# Altium footprint library Connectors.PcbLib: 19 footprints (part 1 of 2)
Each footprint in its own frame and in the unit in brackets; x right, y up, seen from the top. Pads: shape width x height; smd on the part's side, far side on the other; paste and mask are expansions set on the pad; w line width, h text height; cw(c..) or ccw(c..) is an arc to the next point about the centre after c.
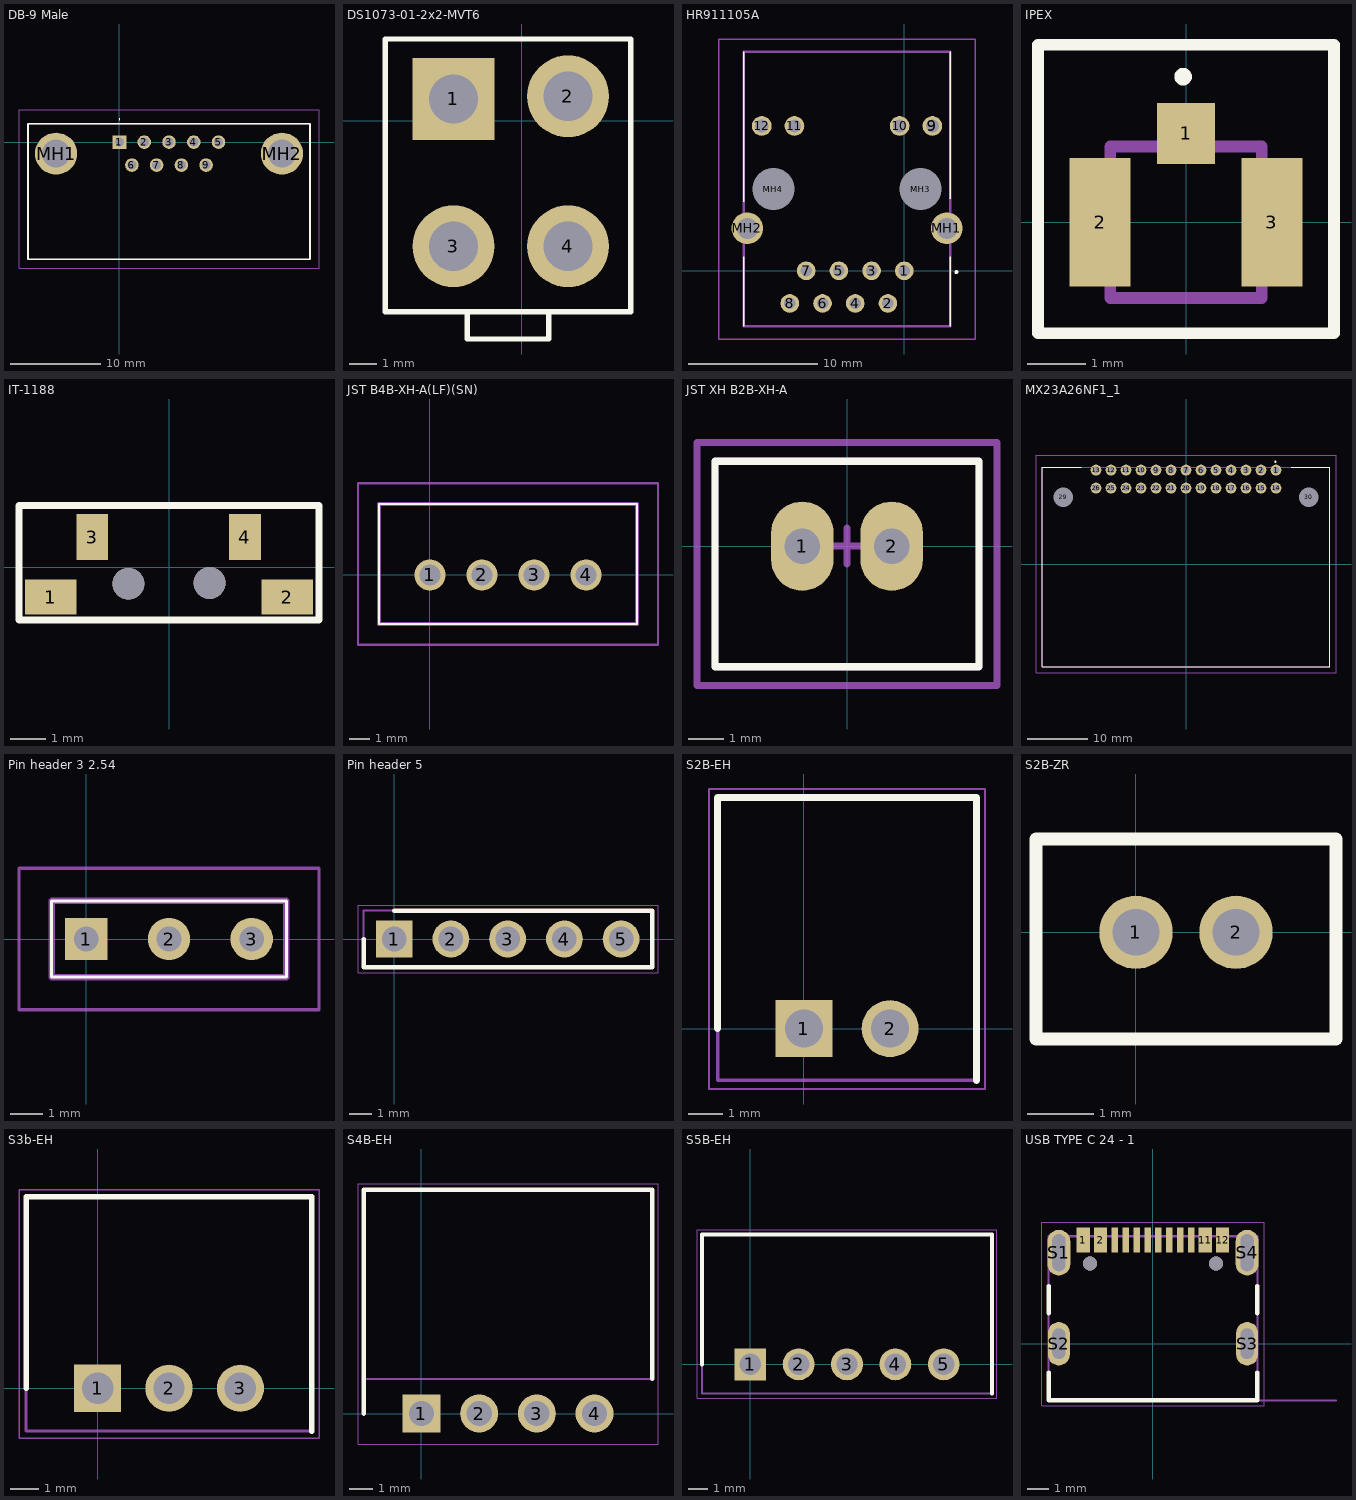
[diagram p0: the footprints below, top view; thin cyan lines are the x and y axes]

## DB-9 Male [mm]
pads (11):
  rect 1.5x1.5 hole 1: 1(0,0)
  round 1.5 hole 1: 2(2.74,0) 3(5.48,0) 4(8.22,0) 5(10.96,0) 6(1.37,-2.54) 7(4.11,-2.54) 8(6.85,-2.54) 9(9.59,-2.54)
  round 4.65 hole 3.1: MH1(-7.02,-1.27) MH2(17.98,-1.27)
Top Overlay:
  lines w0.1: 0,2.5 ccw(c0,2.55) 0,2.6 ccw(c0,2.55) 0,2.5
  lines w0.2: -10.12,-12.97 21.08,-12.97 21.08,2.03 -10.12,2.03 -10.12,-12.97
Mechanical 13:
  lines w0.1: -10.12,-12.97 21.08,-12.97 21.08,2.03 -10.12,2.03 -10.12,-12.97
Mechanical 15:
  lines w0.1: -11.12,-13.97 22.08,-13.97 22.08,3.6 -11.12,3.6 -11.12,-13.97
3D body "09651226802.stp": height 13.81, standoff -2.76, extent -10.12,-19.03 21.08,1.92

## DS1073-01-2x2-MVT6 [mm]
pads (4):
  rect 3x3 hole 1.8: 1(-2.5,0.8)
  round 3 hole 1.8: 2(1.7,0.9) 3(-2.5,-4.6) 4(1.7,-4.6)
Top Overlay:
  lines w0.2: -2,-7 -2,-8 1,-8 1,-7 ; -5,-7 4,-7 4,3 -5,3 -5,-7

## HR911105A [mm]
pads (16):
  round 1.446 hole 0.89: 1(0,0) 2(-1.27,-2.54) 3(-2.54,0) 4(-3.81,-2.54) 5(-5.08,0) 6(-6.35,-2.54) 7(-7.62,0) 8(-8.89,-2.54)
  round 1.53 hole 1.02: 9(2.18,11.25) 10(-0.36,11.25) 11(-8.53,11.25) 12(-11.07,11.25)
  round 2.445 hole 1.63: MH1(3.3,3.3) MH2(-12.19,3.3)
  round 1.625 hole 3.25 unplated: MH3(1.27,6.35) MH4(-10.16,6.35)
Top Overlay:
  lines w0.1: -12.465,-4.3 -12.465,1.1 -12.465,-4.3 ; -12.465,5.35 -12.465,17 -12.465,5.35 ; 3.575,-4.3 3.575,1.1 3.575,-4.3 ; 3.575,5.6 3.575,17 3.575,5.6
  lines w0.2: 4.05,-0.15 ccw(c4.05,-0.1) 4.05,-0.05 ; 4.05,-0.15 cw(c4.05,-0.1) 4.05,-0.05 ; 4.05,-0.15 ccw(c4.05,-0.1) 4.05,-0.05
Mechanical 13:
  lines w0.2: -12.465,-4.3 -12.465,17 3.575,17 3.575,-4.3 -12.465,-4.3
Mechanical 15:
  lines w0.1: -14.417,-5.3 -14.417,18 5.518,18 5.518,-5.3 -14.417,-5.3
3D body "HR911105A.stp": height 13.53, standoff -2.97, extent -12.39,-4.08 3.49,17.32

## IPEX [mm]
pads (3):
  rect 1x1.05 smd: 1(0,1.525)
  rect 1.05x2.2 smd: 2(-1.475,0) 3(1.475,0)
Top Overlay:
  lines w0.2: -2.54,-1.905 2.54,-1.905 2.54,3.048 -2.54,3.048 -2.54,-1.905 ; -0.1,2.5 cw(c-0.05,2.5) 0,2.5 cw(c-0.05,2.5) -0.1,2.5
Mechanical 13:
  lines w0.2: -1.3,-1.3 1.3,-1.3 1.3,1.3 -1.3,1.3 -1.3,-1.3
Mechanical 15:
  lines w0.1: -2.54,-1.905 2.54,-1.905 2.54,3.048 -2.54,3.048 -2.54,-1.905
3D body "User Library-IPEX.STEP": height 1.25, standoff -0.01, extent -1.5,-1.35 1.5,1.75

## IT-1188 [mm]
pads (6):
  rect 1.45x1 smd: 1(-3.35,-0.85) 2(3.35,-0.85)
  rect 0.9x1.3 smd: 3(-2.175,0.85) 4(2.15,0.85)
  round 0.9 hole 0.9: ""(-1.15,-0.475) ""(1.15,-0.45)
Top Overlay:
  lines w0.2: -4.25,-1.5 4.25,-1.5 4.25,1.75 -4.25,1.75 -4.25,1.5 -4.25,-1.5
3D body "User Library-it-1188e.STEP": height 3.5, standoff -0.7, extent -3.898,-1.7 3.902,1.9

## JST B4B-XH-A(LF)(SN) [mm]
pads (4):
  round 1.5 hole 1: 1(0,0) 2(2.5,0) 3(5,0) 4(7.5,0)
Top Overlay:
  lines w0.1: -2.45,-2.35 -2.45,3.4 9.95,3.4 9.95,-2.35 -2.45,-2.35
Mechanical 13:
  lines w0.2: -2.45,-2.35 -2.45,3.4 9.95,3.4 9.95,-2.35 -2.45,-2.35
Mechanical 15:
  lines w0.1: -3.45,-3.35 -3.45,4.4 10.95,4.4 10.95,-3.35 -3.45,-3.35
3D body "B4B-XH-A_LF__SN_.stp": height 7.52, standoff -2.88, extent -2.454,-2.355 9.946,3.395

## JST XH B2B-XH-A [mm]
height 7
pads (2):
  oval 1.75x2.5 hole 1: 1(-1.25,0) 2(1.25,0)
Top Overlay:
  lines w0.2: -3.7,-3.375 3.7,-3.375 3.7,2.375 -3.7,2.375 -3.7,-3.375
Mechanical 1:
  lines w0.2: -3.7,-3.375 -3.7,2.375 3.7,2.375 3.7,-3.375 -3.7,-3.375
Mechanical 15:
  lines w0.2: -0.5,0 0.5,0 ; 0,-0.5 0,0.5 ; -4.2,-3.9 4.2,-3.9 4.2,2.9 -4.2,2.9 -4.2,-3.9
3D body "JST B2B-XH-A.STEP": height 7, standoff -3.4, extent -3.7,-3.375 3.7,2.375

## MX23A26NF1_1 [mm]
pads (28):
  round 1.8 hole 1.2: 1(15,15.65) 2(12.5,15.65) 3(10,15.65) 4(7.5,15.65) 5(5,15.65) 6(2.5,15.65) 7(0,15.65) 8(-2.5,15.65) 9(-5,15.65) 10(-7.5,15.65) 11(-10,15.65) 12(-12.5,15.65) 13(-15,15.65) 14(15,12.65) 15(12.5,12.65) 16(10,12.65) 17(7.5,12.65) 18(5,12.65) 19(2.5,12.65) 20(0,12.65) 21(-2.5,12.65) 22(-5,12.65) 23(-7.5,12.65) 24(-10,12.65) 25(-12.5,12.65) 26(-15,12.65)
  round 1.625 hole 3.25 unplated: 29(-20.5,11.15) 30(20.5,11.15)
Top Overlay:
  lines w0.1: -17.5,16.15 -24,16.15 -24,-17.15 24,-17.15 24,16.15 17.5,16.15
  lines w0.2: 14.8,17.05 ccw(c14.9,17.05) 15,17.05 ccw(c14.9,17.05) 14.8,17.05
Mechanical 13:
  lines w0.2: -24,-17.15 24,-17.15 24,16.15 -24,16.15 -24,-17.15
Mechanical 15:
  lines w0.1: -25,-18.15 25,-18.15 25,18.15 -25,18.15 -25,-18.15
3D body "K3D-MX23A26NF1-R5 JAE Connector Division Proprietary.STEP": height 17.72, standoff -3.68, extent -24,-22.044 24,16.256

## Pin header 3 2.54 [mm]
pads (3):
  rect 1.303x1.303 hole 0.76: 1(0,0)
  round 1.303 hole 0.76: 2(2.54,0) 3(5.08,0)
Top Overlay:
  lines w0.1: -1.065,-1.17 6.145,-1.17 6.145,1.17 -1.065,1.17 -1.065,-1.17
Mechanical 1:
  lines w0.1: -2.065,-2.17 -2.065,2.17 7.145,2.17 7.145,-2.17 -2.065,-2.17
Mechanical 13:
  lines w0.2: -1.065,-1.17 6.145,-1.17 6.145,1.17 -1.065,1.17 -1.065,-1.17
3D body "5-146278-3.stp": height 8.12, standoff -3.05, extent -1.067,-1.168 6.147,1.168

## Pin header 5 [mm]
pads (5):
  rect 1.65x1.65 hole 1.1: 1(0,0)
  round 1.65 hole 1.1: 2(2.54,0) 3(5.08,0) 4(7.62,0) 5(10.16,0)
Top Overlay:
  lines w0.2: -1.37,0 -1.37,-1.27 11.557,-1.27 11.557,1.27 0,1.27
Mechanical 13:
  lines w0.1: -1.37,-1.27 -1.37,1.27 11.557,1.27 11.557,-1.27 -1.37,-1.27
Mechanical 15:
  lines w0.05: -1.62,-1.52 11.811,-1.52 11.811,1.52 -1.62,1.52 -1.62,-1.52

## S2B-EH [mm]
pads (2):
  rect 1.65x1.65 hole 1.1: 1(0,0)
  round 1.65 hole 1.1: 2(2.5,0)
Top Overlay:
  lines w0.2: -2.5,0 -2.5,6.7 5,6.7 5,-1.5
Mechanical 13:
  lines w0.1: -2.5,-1.5 -2.5,6.7 5,6.7 5,-1.5 -2.5,-1.5
Mechanical 15:
  lines w0.05: -2.75,-1.75 5.25,-1.75 5.25,6.95 -2.75,6.95 -2.75,-1.75
3D body "S2B-EH_LF__SN_.stp": height 4.2, standoff -3.2, extent -2.5,-1.5 5,6.7

## S2B-ZR [mm]
pads (2):
  round 1.1 hole 0.7: 1(0,0) 2(1.5,0)
Top Overlay:
  lines w0.2: -1.5,-1.6 -1.5,1.4 3,1.4 3,-1.6 -1.5,-1.6
Mechanical 13:
  lines w0.1: -1.5,-1.6 -1.5,1.4 3,1.4 3,-1.6 -1.5,-1.6

## S3b-EH [mm]
pads (3):
  rect 1.65x1.65 hole 1.1: 1(0,0)
  round 1.65 hole 1.1: 2(2.5,0) 3(5,0)
Top Overlay:
  lines w0.2: -2.5,0 -2.5,6.7 7.5,6.7 7.5,-1.5
Mechanical 13:
  lines w0.1: -2.5,-1.5 -2.5,6.7 7.5,6.7 7.5,-1.5 -2.5,-1.5
Mechanical 15:
  lines w0.05: -2.75,-1.75 7.75,-1.75 7.75,6.95 -2.75,6.95 -2.75,-1.75
3D body "S3B-EH_LF__SN_.stp": height 4.2, standoff -3.2, extent -2.5,-1.5 7.5,6.7

## S4B-EH [mm]
pads (4):
  rect 1.65x1.65 hole 1.1: 1(0,0)
  round 1.65 hole 1.1: 2(2.5,0) 3(5,0) 4(7.5,0)
Top Overlay:
  lines w0.2: -2.5,0 -2.5,9.7 10,9.7 10,1.5
Mechanical 13:
  lines w0.1: -2.5,1.5 -2.5,9.7 10,9.7 10,1.5 -2.5,1.5
Mechanical 15:
  lines w0.05: -2.75,-1.325 10.25,-1.325 10.25,9.95 -2.75,9.95 -2.75,-1.325
3D body "S4B-EH__LF___SN_.stp": height 4.2, standoff -3.2, extent -2.5,-0.32 10,9.7

## S5B-EH [mm]
pads (5):
  rect 1.65x1.65 hole 1.1: 1(0,0)
  round 1.65 hole 1.1: 2(2.5,0) 3(5,0) 4(7.5,0) 5(10,0)
Top Overlay:
  lines w0.2: -2.5,0 -2.5,6.7 12.5,6.7 12.5,-1.5
Mechanical 13:
  lines w0.1: -2.5,-1.5 -2.5,6.7 12.5,6.7 12.5,-1.5 -2.5,-1.5
Mechanical 15:
  lines w0.05: -2.75,-1.75 12.75,-1.75 12.75,6.95 -2.75,6.95 -2.75,-1.75
3D body "S5B-EH_LF__SN_.stp": height 4.2, standoff -3.2, extent -2.5,-1.5 12.5,6.7

## USB TYPE C 24 - 1 [mm]
pads (18):
  rect 0.6x1.15 smd: 1(-3.2,4.755) 2(-2.4,4.755) 11(2.4,4.755) 12(3.2,4.755)
  rect 0.3x1.15 smd: 3(-1.75,4.755) 4(-1.25,4.755) 5(-0.75,4.755) 6(-0.25,4.755) 7(0.25,4.755) 8(0.75,4.755) 9(1.25,4.755) 10(1.75,4.755)
  oval 1.05x2.1 hole 0.6 slot 1.7 at 90 deg: S1(-4.32,4.18) S4(4.32,4.18)
  oval 1x2 hole 0.6 slot 1.4 at 90 deg: S2(-4.32,0) S3(4.32,0)
  round 0.65 hole 0.65 unplated: ""(-2.89,3.68) ""(2.89,3.68)
Top Overlay:
  lines w0.2: -4.79,-1.32 -4.79,-2.6 4.79,-2.6 4.79,-1.32 ; -4.79,1.4 -4.79,2.65 ; 4.79,1.4 4.79,2.65
Mechanical 13:
  lines w0.1: 4.8,-2.6 8.4,-2.6 ; -4.79,-2.6 4.79,-2.6 4.79,4.93 -4.79,4.93 -4.79,-2.6
  text "PCB EDGE" at 5.4,-2.5 h0.41
Mechanical 15:
  lines w0.05: -5.1,-2.85 -5.1,5.58 5.1,5.58 5.1,-2.85 -5.1,-2.85
3D body "step_temp.STEP": height 3.31, standoff -0.85, extent -4.79,-2.585 4.79,5.125